# EAGLE library part SHT21 (library Custom)
SHT21 Humidity and Temperature Sensor IC
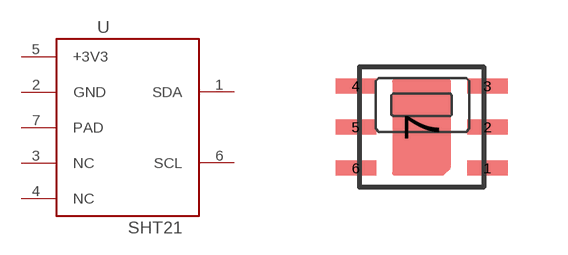
[diagram p38: symbol with the pads of SHT21_PAC; footprint SHT21_PAC]

Designator prefix U

## SHT21  [SHT21_PAC]
1  SDA
2  GND  pwr
3  NC  pas
4  NC  pas
5  +3V3  pwr
6  SCL
7  PAD  pas

## Footprint SHT21_PAC (pad centres in mm)
Package generated from: DFN6(DC).asc (!PADS-POWERPCB-V5.0-BASIC! DESIGN DATABASE ASCII FILE 1.0) with :import-pads-powerpcb-v5.ulp Version 1.0.1 at 04.10.2012 14:11:17
smd 1.012 x 0.375: 1 1.647,-1.028; 2 1.647,0; 3 1.647,1.028; 4 -1.647,1.028; 5 -1.647,0; 6 -1.647,-1.028
smd 1.27 x 1.27: 7 0,0